# Altium schematic symbol library Flexprint_Serverport.SchLib: 7 symbols
Pins are listed as number, name and electrical type; pins without a type are passive.

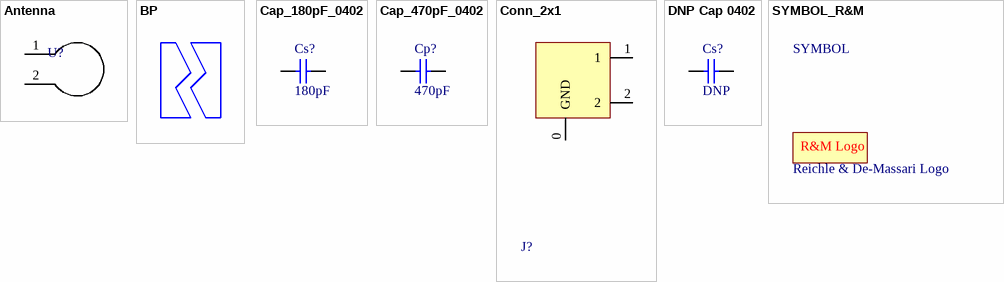
[diagram p0: symbols Antenna to SYMBOL_R&M]

## Antenna
designator U?  (net tie)
Antenna
footprint Ant (Antenna for Serverport)
pins: 1, 2

## BP
designator breakpoint?, comment breaking point  (value not drawn)  (no BOM)
predetermined breaking point; value: breaking point
footprint Breakpoint - REV 02 (Predetermined breakpoint for 2mm diameter contour milling, link width in the middle 1.5mm)

## Cap_180pF_0402
designator Cs?, comment 180pF
180pF ±1% 50V Ceramic Capacitor C0G, NP0 0402 (1005 Metric); Manufacturer: Murata; Manufacturer PartNr: GRM1555C1H181FA01D; Replaceable: yes; Supplier Part Number 1: 490-8187-1-ND; Dielectric Grade: C0G; tolerance: ±1%; voltage: 50V; Footprint/Package: 0402; Supplier 1: Digi-Key; value: 180pF
footprint C0402 (Chip Capacitor, bipolar, 2-Leads, IPC High Density)
pins: 1, 2

## Cap_470pF_0402
designator Cp?, comment 470pF
470pF ±1% 50V Ceramic Capacitor C0G, NP0 0402 (1005 Metric); Manufacturer PartNr: GRM1555C1H471FA01D; Manufacturer: Murata; Replaceable: yes; Dielectric Grade: C0G; tolerance: ±1%; voltage: 50V; Supplier 1: Digi-Key; Supplier Part Number 1: 490-8207-1-ND; Footprint/Package: 0402; value: 470pF
footprint C0402 (Chip Capacitor, bipolar, 2-Leads, IPC High Density)
pins: 1, 2

## Conn_2x1
designator J?, comment Molex 0781710002  (value not drawn)
Molex, connector Header SMD, 2 position 0.047" (1.20mm); Replaceable: no; Manufacturer: Molex; value: Molex 0781710002; Supplier 1: Digy-Key; Supplier Part Number 1: WM4459CT-ND; Footprint/Package: SMD; Manufacturer PartNr: 0781710002
footprint CONN_2x1 (Molex Connector 2x1 Pin)
pins: 0 GND (power), 1, 2

## DNP Cap 0402
designator Cs?, comment DNP  (no BOM)
DNP Placeholder for capacitor; Manufacturer: na; Supplier Part Number 1: na; Supplier 1: na; tolerance: na; Voltage: na; Manufacturer PartNr: na; Footprint/Package: 0402; Dielectric Grade: na; value: DNP
footprint C0402 (Chip Capacitor, bipolar, 2-Leads, IPC High Density)
pins: 1, 2

## SYMBOL_R&M
designator SYMBOL, comment Reichle & De-Massari Logo  (net tie)
Replaceable: no; value: Overlay; Footprint/Package: 2.54mm
footprint SYMBOL_R&M (Reichle & De-Massari printing)
text: R&M Logo